# Altium integrated library Analog Devices Data Converters Analog-to-Digital Converters.IntLib: 2400 symbols (part 121 of 338)
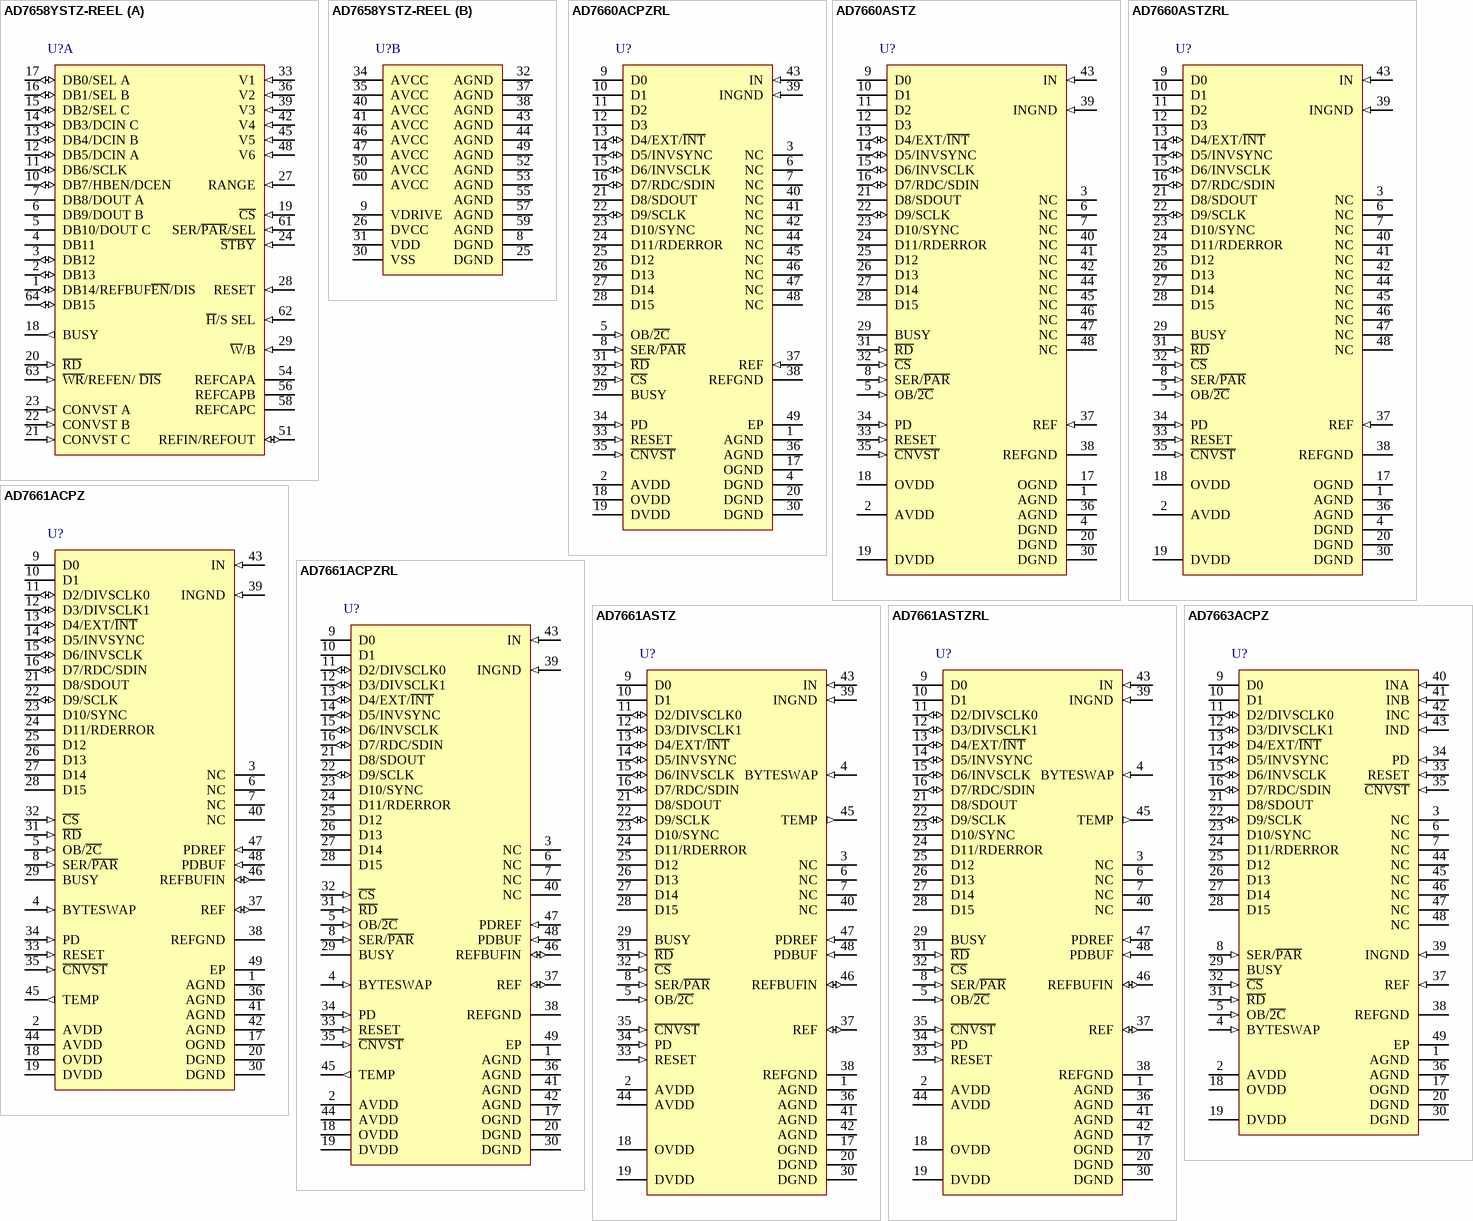
[diagram p324: symbols AD7658YSTZ-REEL to AD7663ACPZ]

## AD7661ACPZRL
designator U?
Single 16-Bit PulSAR Analog-to-Digital Converter with Parallel, Serial, SPI Interface, 100KSPS, -40 to +85 degC, CP-48-1, Pb-Free, Reel; Part Number: AD7661; Manufacturer: Analog Devices; Resolution (Bits): 16; Channels: 1; Throughput Rate (SPS): 100K; Interface: Par, Ser, SPI; DatasheetVersion: Rev.0; PackageVersion: Jan-2005; PackageReference: CP-48-1; PackageDescription: 48-Lead Lead Frame Chip Scale Package [LFCSP_VQ] 7 x 7 mm Body, Very Thin Quad; RoHS: Y; Packing: Reel; Mounting Technology: Surface Mount; Code_JEDEC: MO-220-VKKD-2; ComponentLink1Description: Manufacturer URL; ComponentLink1URL: http://www.analog.com/en/index.html; ComponentLink2Description: Datasheet; ComponentLink2URL: http://www.analog.com/static/imported-files/data_sheets/AD7661.pdf; ComponentLink3Description: Package Specification; ComponentLink3URL: http://www.analog.com/static/imported-files/packages/PKG_PDF/LFCSP(CP)/CP-48/CP_48_1.pdf; ComponentLink4Description: Product URL; ComponentLink4URL: http://www.analog.com/en/analog-to-digital-converters/ad-converters/ad7661/products/product.html
footprint CP-48-1_N (QFN, 48-Leads, Body 7x7mm, Pitch 0.5mm, Thermal Pad 5.1x5.1mm, IPC Medium Density)
footprint CP-48-1_L (QFN, 48-Leads, Body 7x7mm, Pitch 0.5mm, Thermal Pad 5.1x5.1mm, IPC High Density)
footprint CP-48-1_M (QFN, 48-Leads, Body 7x7mm, Pitch 0.5mm, Thermal Pad 5.1x5.1mm, IPC Low Density)
pins: 1 AGND (power) "Analog Power Ground Pin.", 2 AVDD (power) "Input Analog Power Pin. Nominally 5 V.", 3 NC "No Connect.", 4 BYTESWAP (in) "Parallel Mode Selection (8-/16-bit). When LOW, the LSB is output on D[7:0] and the MSB is output on D[15:8]. When HIGH, the LSB is output on D[15:8] and the MSB is output on D[7:0].", 5 OB/~{2C} (in) "Straight Binary/Binary Twos Complement. When OB/2\C\ is HIGH, the digital output is straight binary; when LOW, the MSB is inverted, resulting in a twos complement output from its internal shift register.", 6 NC "No Connect.", 7 NC "No Connect.", 8 SER/~{PAR} (in) "Serial/Parallel Selection Input. When LOW, the parallel port is selected; when HIGH, the serial interface mode is selected and some bits of the DATA bus are used as a serial port.", 9 D0 (hiz) "Bit 0 of the Parallel Port Data Output Bus. When SER/P\A\R\ is HIGH, these outputs are in high impedance.", 10 D1 (hiz) "Bit 1 of the Parallel Port Data Output Bus. When SER/P\A\R\ is HIGH, these outputs are in high impedance.", 11 D2/DIVSCLK0 (io) "When SER/P\A\R\ is LOW, these outputs are used as Bit 2 of the parallel port data output bus. When SER/P\A\R\ is HIGH, EXT/I\N\T\ is LOW, and RDC/SDIN is LOW (serial master read after convert), these inputs, part of the (See Datasheet)", 12 D3/DIVSCLK1 (io) "When SER/P\A\R\ is LOW, these outputs are used as Bit 3 of the parallel port data output bus. When SER/P\A\R\ is HIGH, EXT/I\N\T\ is LOW, and RDC/SDIN is LOW (serial master read after convert), these inputs, part of the (See Datasheet)", 13 D4/EXT/~{INT} (io) "When SER/P\A\R\ is LOW, this output is used as Bit 4 of the parallel port data output bus. When SER/P\A\R\ is HIGH, this input, part of the serial port, is used as a digital select input for choosing the internal data clock (See Datasheet)", 14 D5/INVSYNC (io) "When SER/P\A\R\ is LOW, this output is used as Bit 5 of the parallel port data output bus. When SER/P\A\R\ is HIGH, this input, part of the serial port, is used to select the active state of the SYNC signal. It is active in (See Datasheet)", 15 D6/INVSCLK (io) "When SER/P\A\R\ is LOW, this output is used as Bit 6 of the parallel port data output bus. When SER/P\A\R\ is HIGH, this input, part of the serial port, is used to invert the SCLK signal. It is active in both master and (See Datasheet)", 16 D7/RDC/SDIN (io) "When SER/P\A\R\ is LOW, this output is used as Bit 7 of the parallel port data output bus. When SER/P\A\R\ is HIGH, this input, part of the serial port, is used as either an external data input or a read mode selection input (See Datasheet)", 17 OGND (power) "Input/Output Interface Digital Power Ground.", 18 OVDD (power) "Input/Output Interface Digital Power. Nominally at the same supply as the host interface (5 V or 3 V).", 19 DVDD (power) "Digital Power. Nominally at 5 V.", 20 DGND (power) "Digital Power Ground.", 21 D8/SDOUT (hiz) "When SER/P\A\R\ is LOW, this output is used as Bit 8 of the parallel port data output bus. When SER/P\A\R\ is HIGH, this output, part of the serial port, is used as a serial data output synchronized to SCLK. Conversion (See Datasheet)", 22 D9/SCLK (io) "When SER/P\A\R\ is LOW, this output is used as Bit 9 of the parallel port data or SCLK output bus.When SER/P\A\R\ is HIGH, this pin, part of the serial port, is used as a serial data clock input or output, depending upon the (See Datasheet)", 23 D10/SYNC (hiz) "When SER/P\A\R\ is LOW, this output is used as Bit 10 of the parallel port data output bus.When SER/P\A\R\ is HIGH, this output, part of the serial port, is used as a digital output frame synchronization for use with the (See Datasheet)", 24 D11/RDERROR (hiz) "When SER/P\A\R\ is LOW, this output is used as Bit 11 of the parallel port data output bus. When SER/P\A\R\ and EXT/I\N\T\ are HIGH, this output, part of the serial port, is used as an incomplete read error flag. In slave (See Datasheet)", 25 D12 (hiz) "Bit 12 of the Parallel Port Data Output Bus. These pins are always outputs regardless of the state of SER/P\A\R\.", 26 D13 (hiz) "Bit 13 of the Parallel Port Data Output Bus. These pins are always outputs regardless of the state of SER/P\A\R\.", 27 D14 (hiz) "Bit 14 of the Parallel Port Data Output Bus. These pins are always outputs regardless of the state of SER/P\A\R\.", 28 D15 (hiz) "Bit 15 of the Parallel Port Data Output Bus. These pins are always outputs regardless of the state of SER/P\A\R\.", 29 BUSY (hiz) "Busy Output. Transitions HIGH when a conversion is started and remains HIGH until the conversion is complete and the data is latched into the on-chip shift register. The falling edge of BUSY could be used as a data ready (See Datasheet)", 30 DGND (power) "Must Be Tied to Digital Ground.", 31 ~{RD} (in) "Read Data. When C\S\ and R\D\ are both LOW, the interface parallel or serial output bus is enabled.", 32 ~{CS} (in) "Chip Select. When C\S\ and R\D\ are both LOW, the interface parallel or serial output bus is enabled. C\S\ is also used to gate the external clock.", 33 RESET (in) "Reset Input. When set to a logic HIGH, this pin resets the AD7652 and the current conversion, if any, is aborted. If not used, this pin could be tied to DGND.", 34 PD (in) "Power-Down Input. When set to a logic HIGH, power consumption is reduced and conversions are inhibited after the current one is completed.", 35 ~{CNVST} (in) "Start Conversion. If C\N\V\S\T\ is HIGH when the acquisition phase (t8) is complete, the next falling edge on C\N\V\S\T\ puts the internal sample/hold into the hold state and initiates a conversion. The mode is most (See Datasheet)", 36 AGND (power) "Analog Power Ground Pin.", 37 REF (io) "Reference Input Voltage. On-chip reference output voltage.", 38 REFGND (power) "Reference Input Analog Ground.", 39 INGND (in) "Analog Input Ground.", 40 NC "No Connect.", 41 AGND (power) "Analog Power Ground Pin.", 42 AGND (power) "Analog Power Ground Pin.", 43 IN (in) "Primary Analog Input with a Range of 0 V to 2.5 V.", 44 AVDD (power) "Input Analog Power Pin. Nominally 5 V.", 45 TEMP (out) "Temperature Sensor Voltage Output.", 46 REFBUFIN (io) "Reference Input Voltage. The reference output and the reference buffer input.", 47 PDREF (in) "This pin allows the choice of internal or external voltage references. When LOW, the on-chip reference is turned on. When HIGH, the internal reference is switched off and an external reference must be used.", 48 PDBUF (in) "This pin allows the choice of buffering an internal or external reference with the internal buffer. When LOW, the buffer is selected. When HIGH, the buffer is switched off.", 49 EP (power) "Paddle Connected to AGND."